# EAGLE library part YMF262 (library OPL3)
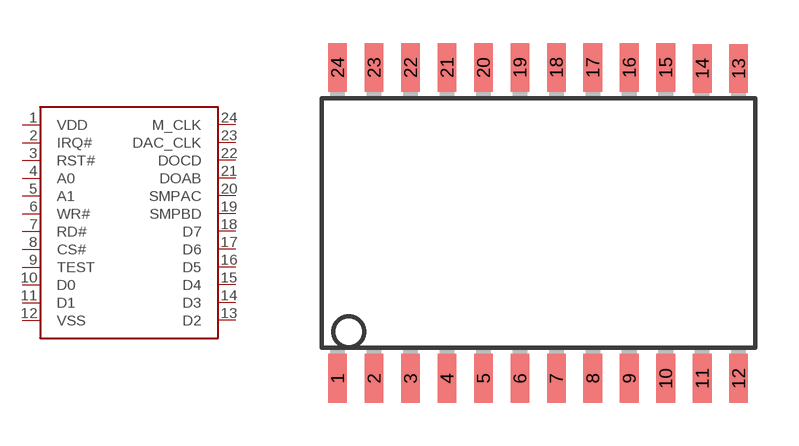
[diagram p0: symbol with the pads of 24SOP; footprint 24SOP]

Designator prefix -

## YMF262  [24SOP]
1  VDD
2  IRQ#
3  RST#
4  A0
5  A1
6  WR#
7  RD#
8  CS#
9  TEST
10  D0
11  D1
12  VSS
13  D2
14  D3
15  D4
16  D5
17  D6
18  D7
19  SMPBD
20  SMPAC
21  DOAB
22  DOCD
23  DAC_CLK
24  M_CLK

## Footprint 24SOP (pad centres in mm)
smd 0.65 x 1.7: 1 -8.89,-4.78; 2 -7.62,-4.78; 3 -6.35,-4.78; 4 -5.08,-4.78; 5 -3.81,-4.78; 6 -2.54,-4.78; 7 -1.27,-4.78; 8 0,-4.78; 9 1.27,-4.78; 10 2.54,-4.78; 11 3.81,-4.78; 12 5.08,-4.78; 13 5.08,6.015; 14 3.81,6.015; 15 2.54,6.05; 16 1.27,6.05; 17 0,6.05; 18 -1.27,6.05; 19 -2.54,6.05; 20 -3.81,6.05; 21 -5.08,6.05; 22 -6.35,6.05; 23 -7.62,6.05; 24 -8.89,6.05